# Altium schematic symbol library Molex 6.5MM  power connectors, 1510482204 etc..SchLib: 1 symbol
Pins are listed as number, name and electrical type; pins without a type are passive.

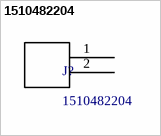
[diagram p0: symbol 1510482204]

## 1510482204
designator J?
Molex 6.5MM 2 pin connector, used for power connections. P/N 1510482204 and similar models.
footprint 1510482204 (Molex 6.5MM 2 pin connector, used for power connections. P/N 1510482204 and similar models.)
pins: 1, 2